# EAGLE library part MICROSD (library SmallRoomLabs)
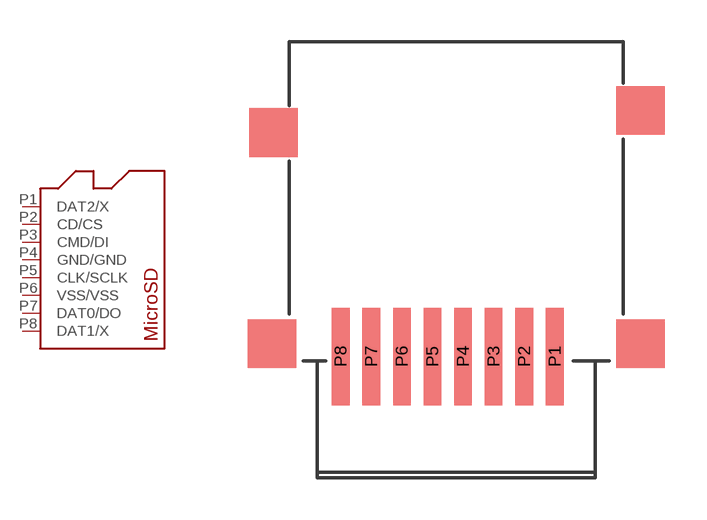
[diagram p14: symbol with the pads of DM3D; footprint DM3D]

Designator prefix -

## MICROSD-DM3D  [DM3D]
P1  DAT2/X
P2  CD/CS
P3  CMD/DI
P4  GND/GND
P5  CLK/SCLK
P6  VSS/VSS
P7  DAT0/DO
P8  DAT1/X

## Footprint DM3D (pad centres in mm)
smd 0.635 x 3.5: P1 9.544,0.168; P2 8.444,0.168; P3 7.344,0.168; P4 6.244,0.168; P5 5.144,0.168; P6 4.044,0.168; P7 2.944,0.168; P8 1.844,0.168